# Altium schematic symbol library Linear Regulator.SchLib: 1 symbol
Pins are listed as number, name and electrical type; pins without a type are passive.

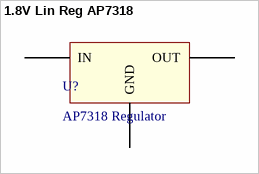
[diagram p0: symbol 1.8V Lin Reg AP7318]

## 1.8V Lin Reg AP7318
designator U?, comment AP7318 Regulator
AP7318 1.8V Linear Regulator
footprint AP7333 (3.3V Linear Regulator)
pins: 1 IN, 2 OUT, 3 GND